# Altium schematic symbol library Res_Yageo_RC0805FR-07100KL_eec.SchLib: 1 symbol
Pins are listed as number, name and electrical type; pins without a type are passive.

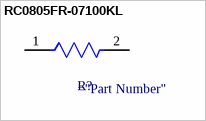
[diagram p0: symbol RC0805FR-07100KL]

## RC0805FR-07100KL
designator R?  (value not drawn)
footprint Vishay_CRCW0805-e3_IPC_A
pins: 1, 2